# Altium schematic symbol library STM32F103.SchLib: 1 symbol
Pins are listed as number, name and electrical type; pins without a type are passive.

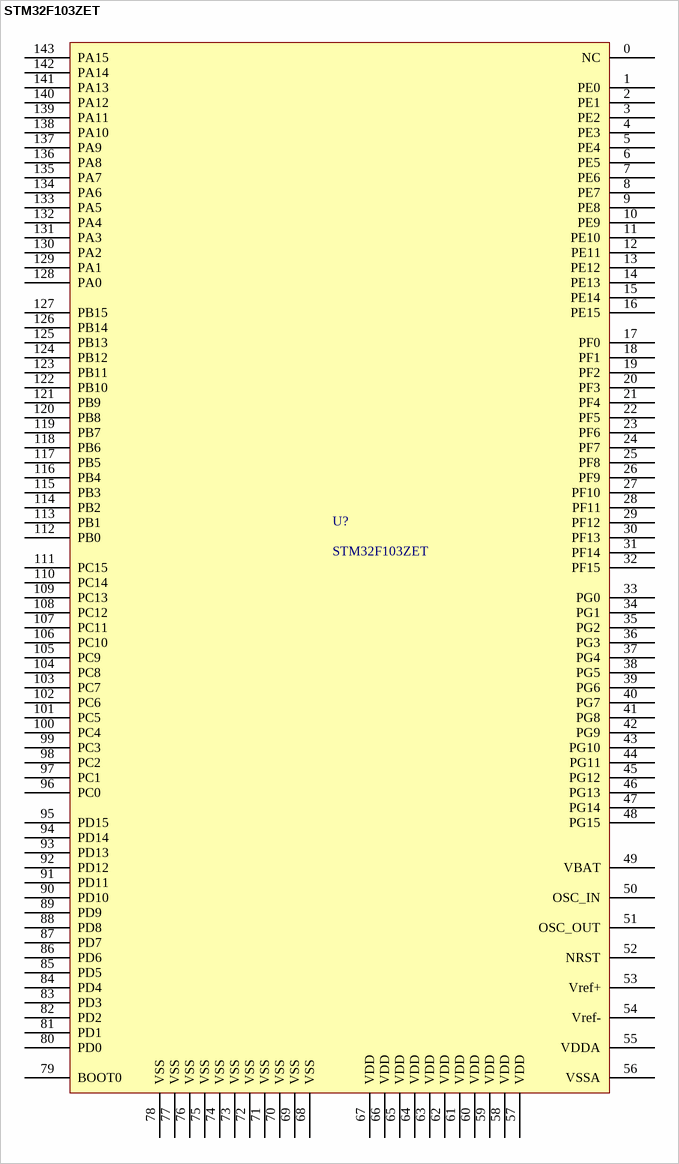
[diagram p0: symbol STM32F103ZET]

## STM32F103ZET
designator U?
pins: 0 NC, 1 PE0, 2 PE1, 3 PE2, 4 PE3, 5 PE4, 6 PE5, 7 PE6, 8 PE7, 9 PE8, 10 PE9, 11 PE10, 12 PE11, 13 PE12, 14 PE13, 15 PE14, 16 PE15, 17 PF0, 18 PF1, 19 PF2, 20 PF3, 21 PF4, 22 PF5, 23 PF6, 24 PF7, 25 PF8, 26 PF9, 27 PF10, 28 PF11, 29 PF12, 30 PF13, 31 PF14, 32 PF15, 33 PG0, 34 PG1, 35 PG2, 36 PG3, 37 PG4, 38 PG5, 39 PG6, 40 PG7, 41 PG8, 42 PG9, 43 PG10, 44 PG11, 45 PG12, 46 PG13, 47 PG14, 48 PG15, 49 VBAT, 50 OSC_IN, 51 OSC_OUT, 52 NRST, 53 Vref+, 54 Vref-, 55 VDDA, 56 VSSA, 57 VDD, 58 VDD, 59 VDD, 60 VDD, 61 VDD, 62 VDD, 63 VDD, 64 VDD, 65 VDD, 66 VDD, 67 VDD, 68 VSS, 69 VSS, 70 VSS, 71 VSS, 72 VSS, 73 VSS, 74 VSS, 75 VSS, 76 VSS, 77 VSS, 78 VSS, 79 BOOT0, 80 PD0, 81 PD1, 82 PD2, 83 PD3, 84 PD4, 85 PD5, 86 PD6, 87 PD7, 88 PD8, 89 PD9, 90 PD10, 91 PD11, 92 PD12, 93 PD13, 94 PD14, 95 PD15, 96 PC0, 97 PC1, 98 PC2, 99 PC3, 100 PC4, 101 PC5, 102 PC6, 103 PC7, 104 PC8, 105 PC9, 106 PC10, 107 PC11, 108 PC12, 109 PC13, 110 PC14, 111 PC15, 112 PB0, 113 PB1, 114 PB2, 115 PB3, 116 PB4, 117 PB5, 118 PB6, 119 PB7, 120 PB8, 121 PB9, 122 PB10, 123 PB11, 124 PB12, 125 PB13, 126 PB14, 127 PB15, 128 PA0, 129 PA1, 130 PA2, 131 PA3, 132 PA4, 133 PA5, 134 PA6, 135 PA7, 136 PA8, 137 PA9, 138 PA10, 139 PA11, 140 PA12, 141 PA13, 142 PA14, 143 PA15